# EAGLE library part STIFTLEISTE-25 (library Projekt)
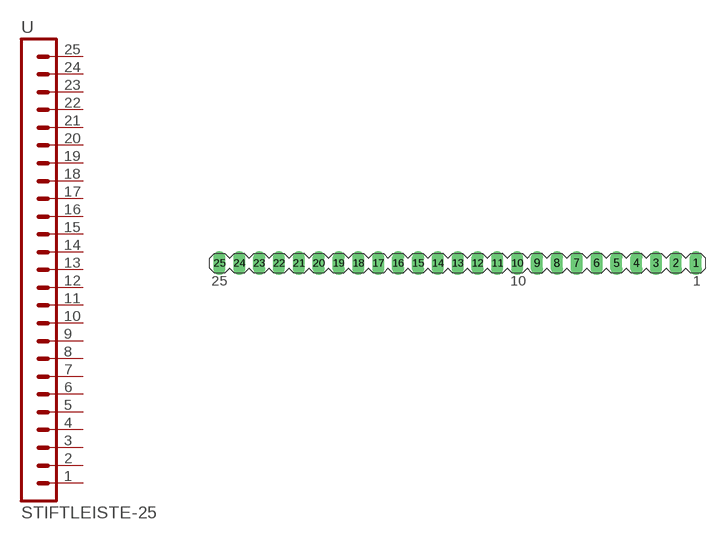
[diagram p8: symbol with the pads of PFOSTENSTECKER-25; footprint PFOSTENSTECKER-25]

Designator prefix -

## STIFTLEISTE-25  [PFOSTENSTECKER-25]
1  1  pas
2  2  pas
3  3  pas
4  4  pas
5  5  pas
6  6  pas
7  7  pas
8  8  pas
9  9  pas
10  10  pas
11  11  pas
12  12  pas
13  13  pas
14  14  pas
15  15  pas
16  16  pas
17  17  pas
18  18  pas
19  19  pas
20  20  pas
21  21  pas
22  22  pas
23  23  pas
24  24  pas
25  25  pas

## Footprint PFOSTENSTECKER-25 (pad centres in mm)
PIN HEADER
drill 1.016 long: 1 31.75,0; 2 29.21,0; 3 26.67,0; 4 24.13,0; 5 21.59,0; 6 19.05,0; 7 16.51,0; 8 13.97,0; 9 11.43,0; 10 8.89,0; 11 6.35,0; 12 3.81,0; 13 1.27,0; 14 -1.27,0; 15 -3.81,0; 16 -6.35,0; 17 -8.89,0; 18 -11.43,0; 19 -13.97,0; 20 -16.51,0; 21 -19.05,0; 22 -21.59,0; 23 -24.13,0; 24 -26.67,0; 25 -29.21,0